# Altium schematic symbol library Connectors.SchLib: 42 symbols
Pins are listed as number, name and electrical type; pins without a type are passive.

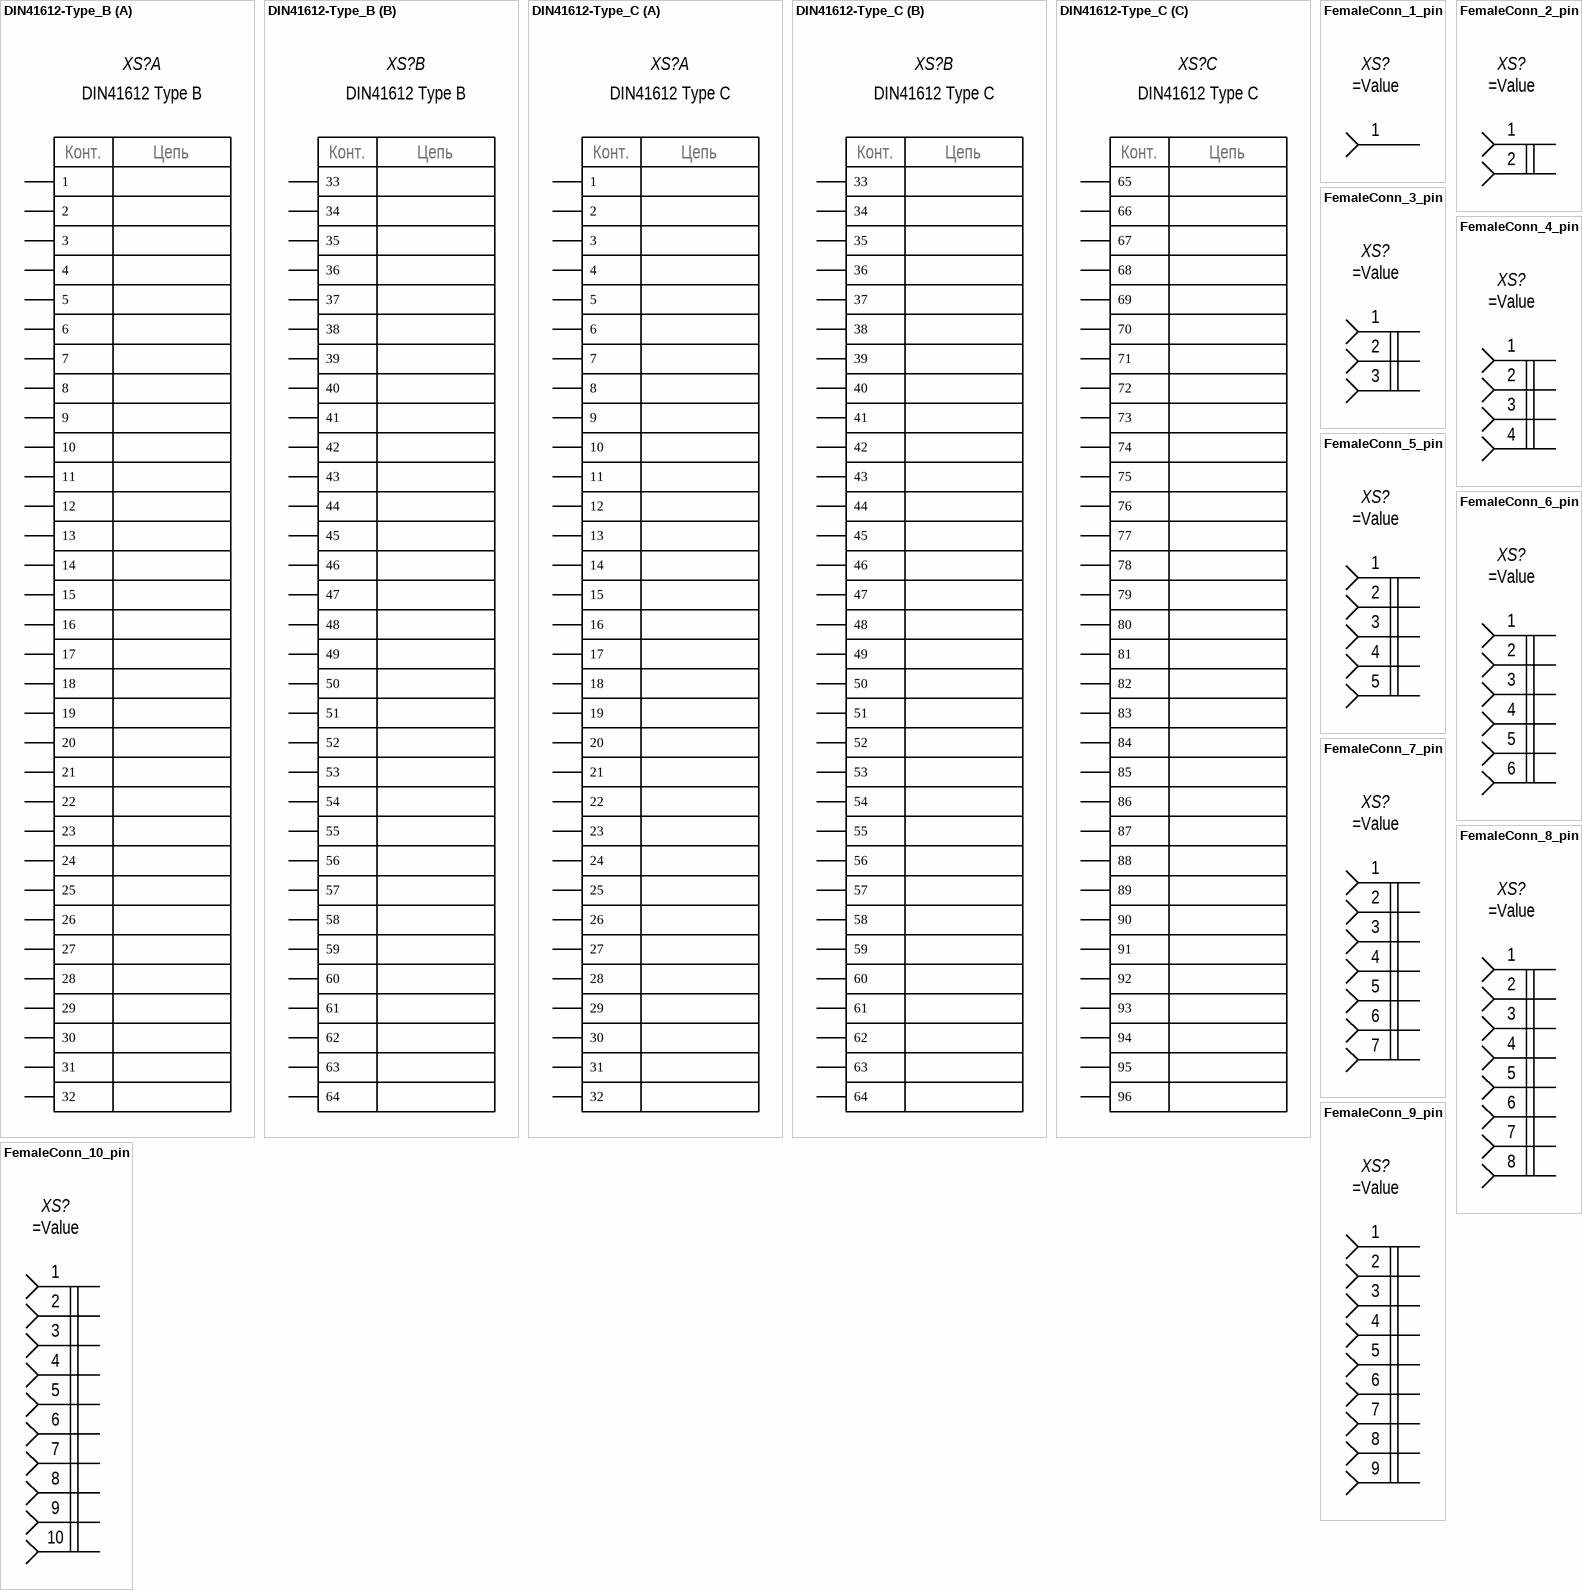
[diagram p0: symbols DIN41612-Type_B to FemaleConn_10_pin]

## DIN41612-Type_B
designator XS?  value DIN41612 Type B  (hidden comment: *)
HelpURL: *; Manufacturer: *
footprint DIN41612-BF (DIN-41612 Type B Female, 64 pins, Pitch 2.54mm(0.1inch))
part A pins: 1, 2, 3, 4, 5, 6, 7, 8, 9, 10, 11, 12, 13, 14, 15, 16, 17, 18, 19, 20, 21, 22, 23, 24, 25, 26, 27, 28, 29, 30, 31, 32
part B pins: 33, 34, 35, 36, 37, 38, 39, 40, 41, 42, 43, 44, 45, 46, 47, 48, 49, 50, 51, 52, 53, 54, 55, 56, 57, 58, 59, 60, 61, 62, 63, 64
part A text: Конт.; Цепь
part B text: Конт.; Цепь

## DIN41612-Type_C
designator XS?  value DIN41612 Type C  (hidden comment: *)
HelpURL: *; Manufacturer: *
footprint DIN41612-CF (DIN-41612 Type C Female, 96 pins, Pitch 2.54mm(0.1inch))
part A pins: 1, 2, 3, 4, 5, 6, 7, 8, 9, 10, 11, 12, 13, 14, 15, 16, 17, 18, 19, 20, 21, 22, 23, 24, 25, 26, 27, 28, 29, 30, 31, 32
part B pins: 33, 34, 35, 36, 37, 38, 39, 40, 41, 42, 43, 44, 45, 46, 47, 48, 49, 50, 51, 52, 53, 54, 55, 56, 57, 58, 59, 60, 61, 62, 63, 64
part C pins: 65, 66, 67, 68, 69, 70, 71, 72, 73, 74, 75, 76, 77, 78, 79, 80, 81, 82, 83, 84, 85, 86, 87, 88, 89, 90, 91, 92, 93, 94, 95, 96
part A text: Конт.; Цепь
part B text: Конт.; Цепь
part C text: Конт.; Цепь

## FemaleConn_1_pin
designator XS?  (value not drawn)
HelpURL: *; Manufacturer: *; Value: =Value
footprint ZFKDS_1_1,5C-5,0 (ZFKDS 1,5C-5,0, Phoenix Contact, 1 pins, Pitch 5mm)
pins: 1

## FemaleConn_2_pin
designator XS?  (value not drawn)
HelpURL: *; Manufacturer: *; Value: =Value
footprint ZFKDS_2_1,5C-5,0 (ZFKDS 1,5C-5,0, Phoenix Contact, 2 pins, Pitch 5mm)
pins: 1, 2

## FemaleConn_3_pin
designator XS?  (value not drawn)
HelpURL: *; Manufacturer: *; Value: =Value
footprint ZFKDS_3_1,5C-5,0 (ZFKDS 1,5C-5,0, Phoenix Contact, 3 pins, Pitch 5mm)
pins: 1, 2, 3

## FemaleConn_4_pin
designator XS?  (value not drawn)
HelpURL: *; Manufacturer: *; Value: =Value
footprint ZFKDS_4_1,5C-5,0 (ZFKDS 1,5C-5,0, Phoenix Contact, 4 pins, Pitch 5mm)
pins: 1, 2, 3, 4

## FemaleConn_5_pin
designator XS?  (value not drawn)
HelpURL: *; Manufacturer: *; Value: =Value
footprint PBS-5 (PBS Package, 5 pins, Pitch 2.54mm)
footprint ZFKDS_5_1,5C-5,0 (ZFKDS 1,5C-5,0, Phoenix Contact, 5 pins, Pitch 5mm)
pins: 1, 2, 3, 4, 5

## FemaleConn_6_pin
designator XS?  (value not drawn)
HelpURL: *; Manufacturer: *; Value: =Value
footprint ZFKDS_6_1,5C-5,0 (ZFKDS 1,5C-5,0, Phoenix Contact, 6 pins, Pitch 5mm)
pins: 1, 2, 3, 4, 5, 6

## FemaleConn_7_pin
designator XS?  (value not drawn)
HelpURL: *; Manufacturer: *; Value: =Value
footprint ZFKDS_7_1,5C-5,0 (ZFKDS 1,5C-5,0, Phoenix Contact, 7 pins, Pitch 5mm)
pins: 1, 2, 3, 4, 5, 6, 7

## FemaleConn_8_pin
designator XS?  (value not drawn)
HelpURL: *; Manufacturer: *; Value: =Value
footprint ZFKDS_8_1,5C-5,0 (ZFKDS 1,5C-5,0, Phoenix Contact, 8 pins, Pitch 5mm)
pins: 1, 2, 3, 4, 5, 6, 7, 8

## FemaleConn_9_pin
designator XS?  (value not drawn)
HelpURL: *; Manufacturer: *; Value: =Value
footprint ZFKDS_9_1,5C-5,0 (ZFKDS 1,5C-5,0, Phoenix Contact, 9 pins, Pitch 5mm)
pins: 1, 2, 3, 4, 5, 6, 7, 8, 9

## FemaleConn_10_pin
designator XS?  (value not drawn)
HelpURL: *; Manufacturer: *; Value: =Value
footprint PBS-10 (PBS Package, 10 pins, Pitch 2.54mm)
footprint ZFKDS_10_1,5C-5,0 (ZFKDS 1,5C-5,0, Phoenix Contact, 10 pins, Pitch 5mm)
pins: 1, 2, 3, 4, 5, 6, 7, 8, 9, 10

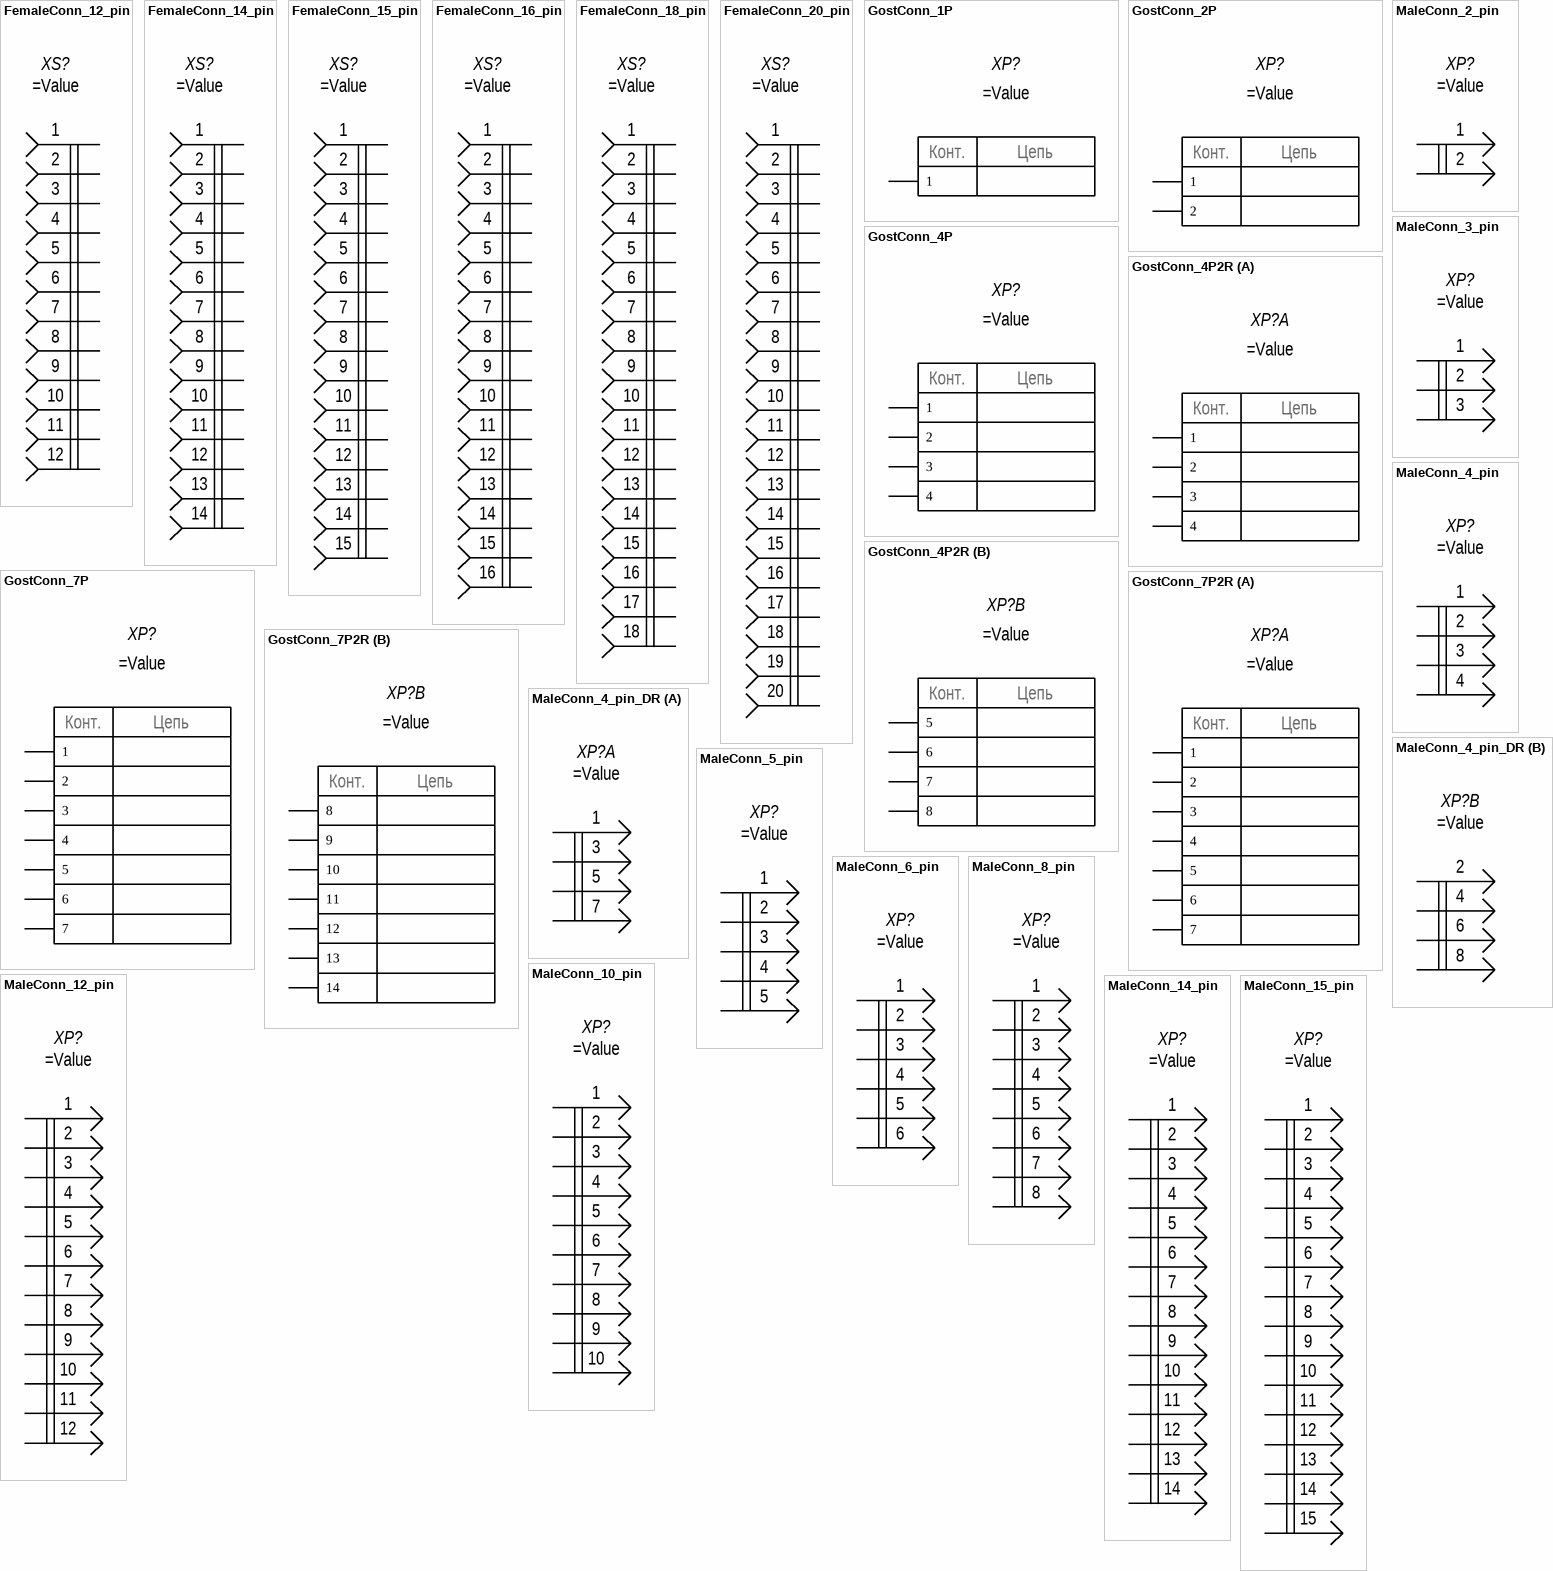
[diagram p1: symbols FemaleConn_12_pin to MaleConn_15_pin]

## FemaleConn_12_pin
designator XS?  (value not drawn)
HelpURL: *; Manufacturer: *; Value: =Value
pins: 1, 2, 3, 4, 5, 6, 7, 8, 9, 10, 11, 12

## FemaleConn_14_pin
designator XS?  (value not drawn)
HelpURL: *; Manufacturer: *; Value: =Value
pins: 1, 2, 3, 4, 5, 6, 7, 8, 9, 10, 11, 12, 13, 14

## FemaleConn_15_pin
designator XS?  (value not drawn)
HelpURL: *; Manufacturer: *; Value: =Value
footprint PBS-15 (PBS Package, 15pins, Pitch 2.54mm (0.1inch))
pins: 1, 2, 3, 4, 5, 6, 7, 8, 9, 10, 11, 12, 13, 14, 15

## FemaleConn_16_pin
designator XS?  (value not drawn)
HelpURL: *; Manufacturer: *; Value: =Value
pins: 1, 2, 3, 4, 5, 6, 7, 8, 9, 10, 11, 12, 13, 14, 15, 16

## FemaleConn_18_pin
designator XS?  (value not drawn)
HelpURL: *; Manufacturer: *; Value: =Value
pins: 1, 2, 3, 4, 5, 6, 7, 8, 9, 10, 11, 12, 13, 14, 15, 16, 17, 18

## FemaleConn_20_pin
designator XS?  (value not drawn)
HelpURL: *; Manufacturer: *; Value: =Value
footprint PBS-20 (PBS Package, 20 pins, Pitch 2.54mm (0.1inch))
pins: 1, 2, 3, 4, 5, 6, 7, 8, 9, 10, 11, 12, 13, 14, 15, 16, 17, 18, 19, 20

## GostConn_1P
designator XP?  (value not drawn)
HelpURL: *; Manufacturer: *; Value: =Value
footprint FRONT_2,5-V/SA5 (FRONT 2,5-V/SA 5, 1 pins, Vendor Phoenix Contact, Code №1700037)
pins: 1
text: Конт.; Цепь

## GostConn_2P
designator XP?  (value not drawn)
HelpURL: *; Manufacturer: *; Value: =Value
footprint PTA-1,5/2-3,5 (PTA 1.5/ 2-3.5, 2 pins, Vendor Phoenix Contact, Code №1988956)
footprint MKDS_1,5/2-B-5,08-GNYE (MKDS 1.5/ 2-B-5.08 GNYE, 2 pins, Vendor Phoenix Contact, Code №1706358)
pins: 1, 2
text: Конт.; Цепь

## GostConn_4P
designator XP?  (value not drawn)
HelpURL: *; Manufacturer: *; Value: =Value
footprint MCV-0,5/4-G-2,5 (MCV-0,5/4-G-2,5, 4 pins, Pitch 2.5mm, Vendor Phoenix Contact, Code №1881574)
footprint PTSM-0,5/4-HV-2,5-THRR32 (PTSM-0.5/4-HV-2.5, 4 pins, Pitch 2.5mm, Vendor Phoenix Contact, Code №1778573)
footprint DMCV-1,5/2-G1-3,5_P20THR (DMCV 1.5/ 2-G1 3.5, 4 pins, Pitch 3.5mm, Vendor Phoenix Contact, Code №1787205)
pins: 1, 2, 3, 4
text: Конт.; Цепь

## GostConn_4P2R
designator XP?  (value not drawn)
HelpURL: *; Manufacturer: *; Value: =Value
footprint MCDNV-1,5/4-G1-3,81_P14THR (MCDNV-1,5/4-G1-3,81, 8 pin, Pitch 3.81mm, Vendor Phoenix Contact, Code №1750122)
footprint DMCV-0,5/4-G1-2,54_P20THR_R32 (DMCV-0,5/4-G1-2,54, 8 pins, Pitch 2.54mm(0.1inch), Vendor Phoenix Contact, Code №1844895)
footprint DMCV-1,5/4-G1-3,5_P20THRR44 (DMCV 1,5/ 4-G1-3,5, 8 pins, Pitch 3.5mm, Vendor Phoenix Contact, Code №1818591)
part A pins: 1, 2, 3, 4
part B pins: 5, 6, 7, 8
part A text: Конт.; Цепь
part B text: Конт.; Цепь

## GostConn_7P
designator XP?  (value not drawn)
HelpURL: *; Manufacturer: *; Value: =Value
footprint MCV-1,5/7-G-3,5-RN (MCV 1.5/ 7 G 3,5, 7 pins, Pitch 3.5mm, Vendor Phoenix Contact, Code №1731536)
footprint MCV-1,5/7-G-3,5_P20THRR56 (MCV 1.5/ 7 G 3.5, 7 pins, Pitch 3.5mm, Vendor Phoenix Contact, Code №1780985, Reply Part №1952319)
pins: 1, 2, 3, 4, 5, 6, 7
text: Конт.; Цепь

## GostConn_7P2R
designator XP?  (value not drawn)
HelpURL: *; Manufacturer: *; Value: =Value
footprint DMCV-1,5/7-G1-3,5_P20THRR56 (DMCV 1.5/ 7 G1 3.5, 14 pins, Pitch 3.5mm, Vendor Phoenix Contact, Code №1818627)
footprint DMCV-0,5/7-G1-2,54_P20THRR44 (DMCV 0,5/ 7-G1-2,54, 14 pins, Pitch 2.54mm(0.1inch), Vendor Phoenix Contact, Code №1844921)
part A pins: 1, 2, 3, 4, 5, 6, 7
part B pins: 8, 9, 10, 11, 12, 13, 14
part A text: Конт.; Цепь
part B text: Конт.; Цепь

## MaleConn_2_pin
designator XP?  (value not drawn)
HelpURL: *; Manufacturer: *; Value: =Value
footprint B2B-PH-K-S (B2B-PH Package, Manufacturer JST, 2 pins, 2 mm)
footprint WF-2R_(DS1070-2MR) (DS1070-2MR Package, Connfly, 2 pins, Pitch 2.54mm (0.1inch))
footprint WF-2_(DS1070-2) (DS1070-2 Package, Connfly, 2 pins, Pitch 2.54mm (0.1inch))
footprint MCV-0,5/2-G-2,54_P20THRR24C2 (MCV-0,5/2-G-2,54, 2 pins, Pitch 2.54mm(0.1inch), Vendor Phoenix Contact, Code №1706169)
pins: 1, 2

## MaleConn_3_pin
designator XP?  (value not drawn)
HelpURL: *; Manufacturer: *; Value: =Value
footprint B3B-PH-K-S (B3B-PH Package, Manufacturer JST, 3 pins, 2 mm)
footprint PLS-3 (PLS Connector, 3 pin, Pitch 2.54mm (0.1inch))
footprint WF-3R_(DS1070-3MR) (DS1070-3MR Package, Connfly, 3 pins, Pitch 2.54mm (0.1inch))
footprint WF-3_(DS1070-3) (DS1070-3 Package, Connfly, 3 pins, Pitch 2.54mm (0.1inch))
pins: 1, 2, 3

## MaleConn_4_pin
designator XP?  (value not drawn)
HelpURL: *; Manufacturer: *; Value: =Value
footprint B4B-PH-K-S (B4B-PH Package, Manufacturer JST, 4 pins, 2 mm)
footprint PLS-4 (PLS Connector, 4 pin, Pitch 2.54mm (0.1inch))
footprint WF-4R_(DS1070-4MR) (DS1070-4MR Package, Connfly, 4 pins, Pitch 2.54mm (0.1inch))
footprint WF-4_(DS1070-4) (DS1070-4 Package, Connfly, 4 pins, Pitch 2.54mm (0.1inch))
footprint DMCV-0,5/2-G1-2,54_P20THR_R32 (DMCV-0,5/4-G1-2,54, 4 pins, Pitch 2.54mm(0.1inch), Vendor Phoenix Contact, Code №1844895)
footprint MCV-0,5/4-G-2,54_P20THRR24C2 (MCV-0,5/4-G-2,54, 4 pins, Pitch 2.54mm(0.1inch), Vendor Phoenix Contact, Code №1706166)
footprint DMCV-1,5/4-G1F-3,5-LRP20THRR3 (DMCV 1.5/ 2-G1F-3.5, 4 pins, Pitch 3.5mm, Vendor Phoenix Contact, Code №1818708)
footprint MCV-0,5/4-G-2,5 (MCV-0,5/4-G-2,5, 4 pins, Pitch 2.5mm, Vendor Phoenix Contact, Code №1881574)
footprint PTSM-0,5/4-HV-2,5-THRR32 (PTSM-0.5/4-HV-2.5, 4 pins, Pitch 2.5mm, Vendor Phoenix Contact, Code №1778573)
pins: 1, 2, 3, 4

## MaleConn_4_pin_DR
designator XP?  (value not drawn)
HelpURL: *; Manufacturer: *; Value: =Value
footprint DMCV-0,5/4-G1-2,54_P20THR_R32 (DMCV-0,5/4-G1-2,54, 8 pins, Pitch 2.54mm(0.1inch), Vendor Phoenix Contact, Code №1844895)
part A pins: 1, 3, 5, 7
part B pins: 2, 4, 6, 8

## MaleConn_5_pin
designator XP?  (value not drawn)
HelpURL: *; Manufacturer: *; Value: =Value
footprint PLS-5 (PLS Package, 5 pins, Pitch 2.54mm (0.1inch))
footprint WF-5R_(DS1070-5MR) (DS1070-5MR Package, Connfly, 5 pins, Pitch 2.54mm (0.1inch))
footprint WF-5_(DS1070-5) (DS1070-5 Package, Connfly, 5 pins, Pitch 2.54mm (0.1inch))
pins: 1, 2, 3, 4, 5

## MaleConn_6_pin
designator XP?  (value not drawn)
HelpURL: *; Manufacturer: *; Value: =Value
footprint WF-6R_(DS1070-6MR) (DS1070-6MR Package, Connfly, 6 pins, Pitch 2.54mm (0.1inch))
footprint WF-6_(DS1070-6) (DS1070-6 Package, Connfly, 6 pins, Pitch 2.54mm (0.1inch))
footprint DMCV-0,5/3-G1-2,54_P20THR_R32 (DMCV-0,5/3-G1-2,54, 6 pins, Pitch 2.54mm(0.1inch), Vendor Phoenix Contact, Code №1844882)
pins: 1, 2, 3, 4, 5, 6

## MaleConn_8_pin
designator XP?  (value not drawn)
HelpURL: *; Manufacturer: *; Value: =Value
footprint DMCV-0,5/4-G1-2,54_P20THR_R32 (DMCV-0,5/4-G1-2,54, 8 pins, Pitch 2.54mm(0.1inch), Vendor Phoenix Contact, Code №1844895)
pins: 1, 2, 3, 4, 5, 6, 7, 8

## MaleConn_10_pin
designator XP?  (value not drawn)
HelpURL: *; Manufacturer: *; Value: =Value
footprint PLS-10 (PLS Package, 10 pins, Pitch 2.54mm (0.1inch))
pins: 1, 2, 3, 4, 5, 6, 7, 8, 9, 10

## MaleConn_12_pin
designator XP?  (value not drawn)
HelpURL: *; Manufacturer: *; Value: =Value
footprint DMCV-0,5/6-G1-2,54_P20THR_R32 (DMCV-0,5/6-G1-2,54, 12 pins, Pitch 2.54mm(0.1inch), Vendor Phoenix Contact, Code №1844918)
pins: 1, 2, 3, 4, 5, 6, 7, 8, 9, 10, 11, 12

## MaleConn_14_pin
designator XP?  (value not drawn)
HelpURL: *; Manufacturer: *; Value: =Value
pins: 1, 2, 3, 4, 5, 6, 7, 8, 9, 10, 11, 12, 13, 14

## MaleConn_15_pin
designator XP?  (value not drawn)
HelpURL: *; Manufacturer: *; Value: =Value
footprint PLS-15 (PLS Package, 15pins, Pitch 2.54mm (0.1inch))
pins: 1, 2, 3, 4, 5, 6, 7, 8, 9, 10, 11, 12, 13, 14, 15

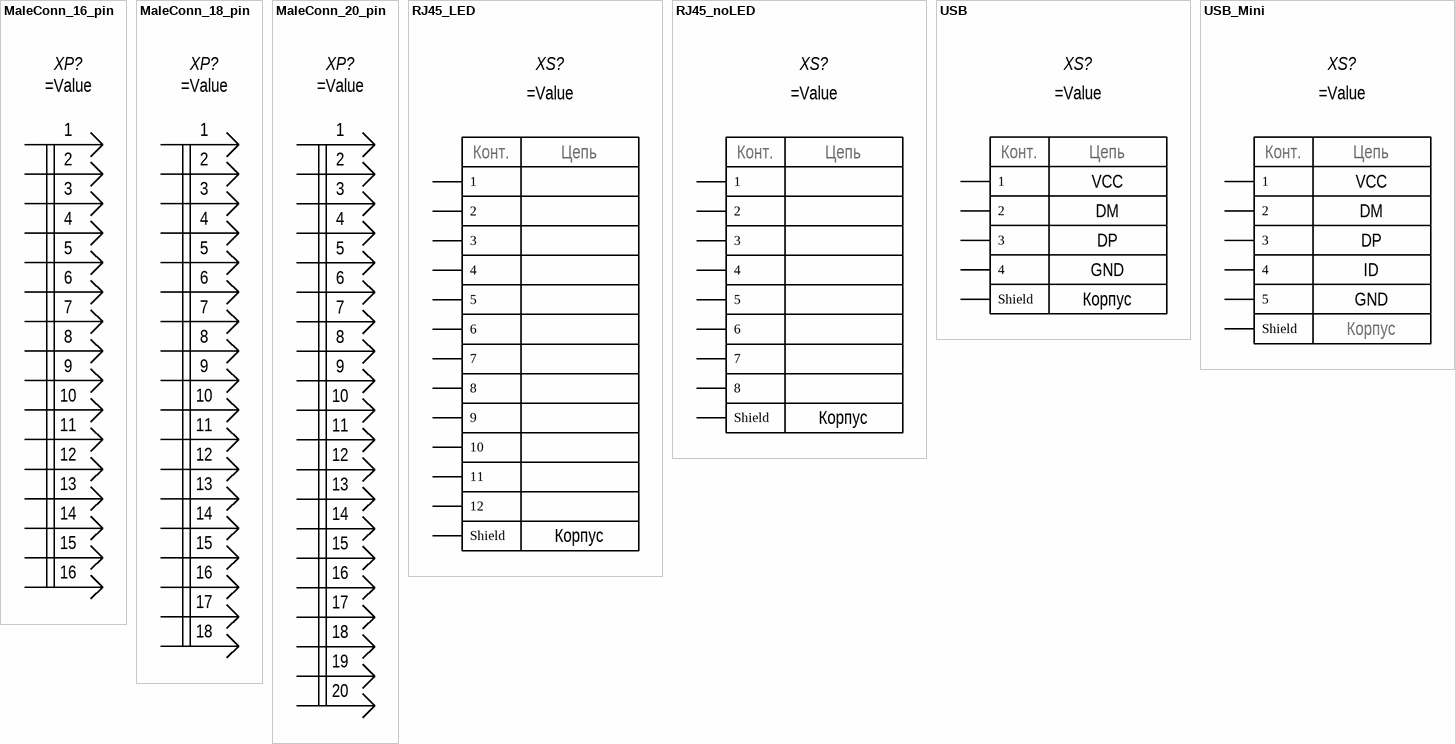
[diagram p2: symbols MaleConn_16_pin to USB_Mini]

## MaleConn_16_pin
designator XP?  (value not drawn)
HelpURL: *; Manufacturer: *; Value: =Value
footprint DMCV-0,5/8-G1-2,54_P20THR_R32 (DMCV-0,5/6-G1-2,54, 12 pins, Pitch 2.54mm(0.1inch), Vendor Phoenix Contact, Code №1844918)
pins: 1, 2, 3, 4, 5, 6, 7, 8, 9, 10, 11, 12, 13, 14, 15, 16

## MaleConn_18_pin
designator XP?  (value not drawn)
HelpURL: *; Manufacturer: *; Value: =Value
pins: 1, 2, 3, 4, 5, 6, 7, 8, 9, 10, 11, 12, 13, 14, 15, 16, 17, 18

## MaleConn_20_pin
designator XP?  (value not drawn)
HelpURL: *; Manufacturer: *; Value: =Value
footprint PLS-20 (PLS Package, 20 pins, Pitch 2.54mm (0.1inch))
pins: 1, 2, 3, 4, 5, 6, 7, 8, 9, 10, 11, 12, 13, 14, 15, 16, 17, 18, 19, 20

## RJ45_LED
designator XS?  (value not drawn)
HelpURL: *; Manufacturer: *; Value: =Value
footprint RJ45_(RJHSE-5384) (8P8C/RJ45 Connector, Amphenol Type RJHSE-5384, 2 red and 2 green LED)
pins: 1, 2, 3, 4, 5, 6, 7, 8, 9, 10, 11, 12, Shield
text: Конт.; Цепь; Корпус

## RJ45_noLED
designator XS?  (value not drawn)
HelpURL: *; Manufacturer: *; Value: =Value
footprint RJ45_noLED_(1-406541-1) (8P8C/RJ45 Connector, TE Connectivity Type 1-406541-1, No LED)
pins: 1, 2, 3, 4, 5, 6, 7, 8, Shield
text: Конт.; Цепь; Корпус

## USB
designator XS?  (value not drawn)
HelpURL: *; Manufacturer: *; Value: =Value
footprint USB_(292336-1) (USB Connector, TE Connectivity Type 292336-1, Vertical, Single Type A)
footprint USB_(1734366-1) (USB Connector, TE Connectivity Type 1734366-1, Vertical, Single Type A)
footprint USB_(292304-2) (USB Connector, TE Connectivity Type 292304-2, Single Type B)
pins: 1, 2, 3, 4, Shield
text: Конт.; Цепь; VCC; DM; DP; GND; Корпус

## USB_Mini
designator XS?  (value not drawn)
HelpURL: *; Manufacturer: *; Value: =Value
footprint USB_(1734035-1) (USB Connector, TE Connectivity Type 1734035-1, Single Type B)
pins: 1, 2, 3, 4, 5, Shield
text: Конт.; Цепь; VCC; DM; DP; ID; GND; Корпус